# Altium footprint library RUF-Dispositivos-Grales.PcbLib: 97 footprints (part 1 of 7)
Each footprint in its own frame and in the unit in brackets; x right, y up, seen from the top. Pads: shape width x height; smd on the part's side, far side on the other; paste and mask are expansions set on the pad; w line width, h text height; cw(c..) or ccw(c..) is an arc to the next point about the centre after c.
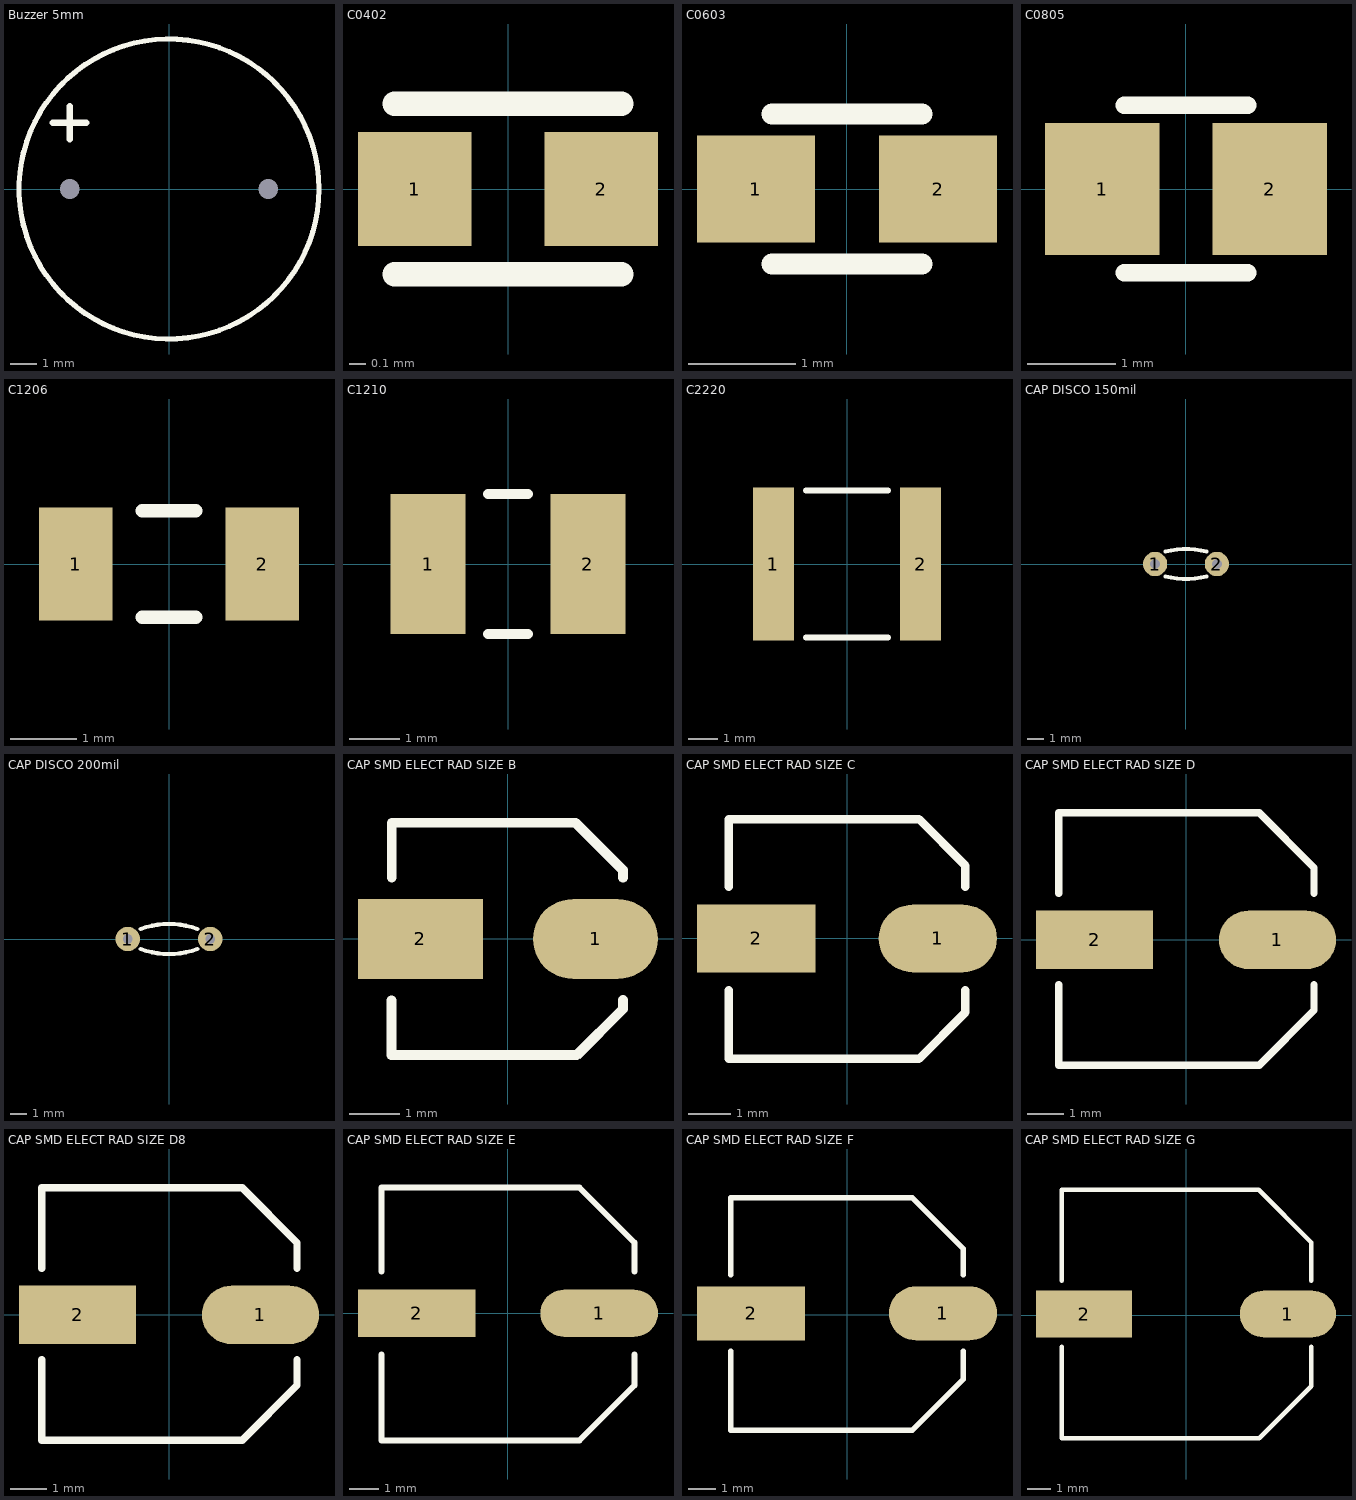
[diagram p0: the footprints below, top view; thin cyan lines are the x and y axes]

## Buzzer 5mm [mm] "Buzzer 5V"
height 9
pads (2):
  rect 0x0 / inner rect 2x2 / far side rect 2x2 hole 0.75: 1(-3.81,0)
  round 0 / inner round 2 / far side round 2 hole 0.75: 2(3.81,0)
Top Overlay:
  circle w0.2: c0,0 r5.75
  lines w0.254: -4.445,2.54 -3.175,2.54 ; -3.81,1.905 -3.81,3.175
3D body: height 9.5, standoff -4.5, extent -5.953,-6 6,6

## C0402 [mm] "Chip Capacitor; Body 1.0 x 0.5 mm (LxW typ)"
height 0.55
pads (2):
  rect 0.7x0.7 smd: 1(-0.575,0) 2(0.575,0)
Top Overlay:
  lines w0.15: -0.7,-0.525 0.7,-0.525 ; -0.7,0.525 0.7,0.525
3D body: height 0.51, standoff 0.01, extent -0.5,-0.25 0.5,0.25

## C0603 [mm] "Chip Capacitor; Body 1.6 x 0.8 mm (LxW typ)"
height 0.87
pads (2):
  rect 1.1x1 smd: 1(-0.85,0) 2(0.85,0)
Top Overlay:
  lines w0.2: -0.7,-0.7 0.7,-0.7 ; -0.7,0.7 0.7,0.7
3D body: height 0.82, standoff 0.02, extent -0.8,-0.4 0.8,0.4

## C0805 [mm] "Chip Capacitor; Body 2.0 x 1.2 mm (LxW typ)"
height 1.1
pads (2):
  rect 1.3x1.5 smd: 1(-0.95,0) 2(0.95,0)
Top Overlay:
  lines w0.2: -0.7,-0.95 0.7,-0.95 ; -0.7,0.95 0.7,0.95
3D body: height 0.62, standoff 0.02, extent -1,-0.625 1,0.625

## C1206 [mm] "Chip Capacitor; Body 3.2 x 1.5 mm (LxW typ)"
height 1.5
pads (2):
  rect 1.1x1.7 smd: 1(-1.4,0) 2(1.4,0)
Top Overlay:
  lines w0.2: -0.4,-0.8 0.4,-0.8 ; -0.4,0.8 0.4,0.8
3D body: height 0.79, standoff 0.01, extent -1.6,-0.8 1.6,0.8

## C1210 [mm] "Chip Capacitor, Body 3.2x2.5mm, IPC Low Density"
height 1.5
pads (2):
  rect 1.5x2.8 smd: 1(-1.6,0) 2(1.6,0)
Top Overlay:
  lines w0.2: -0.4,-1.4 0.4,-1.4 ; -0.4,1.4 0.4,1.4
3D body: height 0.79, standoff 0.01, extent -1.6,-1.25 1.6,1.25

## C2220 [mm] "Chip Capacitor, Body 5.7x5.0mm, IPC High Density"
height 1.4
pads (2):
  rect 1.4x5.2 smd: 1(-2.5,0) 2(2.5,0)
Top Overlay:
  lines w0.2: -1.4,-2.5 1.4,-2.5 ; -1.4,2.5 1.4,2.5
3D body: height 1.02, standoff 0.02, extent -2.8,-2.5 2.8,2.5

## CAP DISCO 150mil [mm] "Capacitor; 2 Leads"
height 12
pads (2):
  round 1.5 hole 0.6: 1(-1.905,0) 2(1.905,0)
Top Overlay:
  lines w0.254: -1.27,-0.764 ccw(c0,4.155) 1.27,-0.764 ; -1.27,0.764 cw(c0,-4.155) 1.27,0.764
3D body: height 6.96, standoff -2, extent -2.458,-1 2.459,1

## CAP DISCO 200mil [mm] "Capacitor; 2 Leads"
height 12
pads (2):
  round 1.5 hole 0.6: 1(-2.54,0) 2(2.54,0)
Top Overlay:
  lines w0.254: -1.737,-0.619 ccw(c0,4.155) 1.737,-0.619 ; -1.737,0.619 cw(c0,-4.155) 1.737,0.619
3D body: height 7.5, standoff -1, extent -3.5,-0.848 3.491,0.848

## CAP SMD ELECT RAD SIZE B [mm]
pads (2):
  oval 2.5x1.6 smd: 1(1.75,0)
  rect 2.5x1.6 smd: 2(-1.75,0)
Top Overlay:
  lines w0.2: -2.325,-1.225 -2.325,-2.325 1.375,-2.325 2.3,-1.4 2.3,-1.225 ; -2.325,1.225 -2.325,2.325 1.35,2.325 2.3,1.375 2.3,1.225
3D body: height 5.41, standoff -0.01, extent -2.3,-2.15 2.3,2.15

## CAP SMD ELECT RAD SIZE C [mm]
pads (2):
  oval 2.8x1.6 smd: 1(2.15,0)
  rect 2.8x1.6 smd: 2(-2.15,0)
Top Overlay:
  lines w0.2: -2.8,-1.225 -2.8,-2.85 1.7,-2.85 2.8,-1.75 2.8,-1.225 ; -2.8,1.225 -2.8,2.825 1.7,2.825 2.8,1.725 2.8,1.225
3D body: height 5.41, standoff -0.01, extent -2.95,-2.65 2.95,2.65

## CAP SMD ELECT RAD SIZE D [mm]
pads (2):
  oval 3.2x1.6 smd: 1(2.5,0)
  rect 3.2x1.6 smd: 2(-2.5,0)
Top Overlay:
  lines w0.2: -3.475,-1.225 -3.475,-3.425 2,-3.425 3.5,-1.925 3.5,-1.225 ; -3.475,1.275 -3.475,3.475 2,3.475 3.5,1.975 3.5,1.275
3D body: height 5.41, standoff -0.01, extent -3.5,-3.275 3.5,3.325

## CAP SMD ELECT RAD SIZE D8 [mm]
pads (2):
  oval 3.2x1.6 smd: 1(2.5,0)
  rect 3.2x1.6 smd: 2(-2.5,0)
Top Overlay:
  lines w0.2: -3.475,-1.225 -3.475,-3.425 2,-3.425 3.5,-1.925 3.5,-1.225 ; -3.475,1.275 -3.475,3.475 2,3.475 3.5,1.975 3.5,1.275
3D body: height 7.71, standoff -0.01, extent -3.5,-3.275 3.5,3.325

## CAP SMD ELECT RAD SIZE E [mm]
pads (2):
  oval 4x1.6 smd: 1(3.1,0)
  rect 4x1.6 smd: 2(-3.1,0)
Top Overlay:
  lines w0.2: -4.3,-1.4 -4.3,-4.325 2.425,-4.325 4.3,-2.45 4.3,-1.4 ; -4.3,1.425 -4.3,4.275 2.425,4.275 4.3,2.4 4.3,1.425
3D body: height 6.2, standoff -0.01, extent -4.5,-4.15 4.5,4.15

## CAP SMD ELECT RAD SIZE F [mm]
pads (2):
  oval 4x2 smd: 1(3.55,0.05)
  rect 4x2 smd: 2(-3.55,0.05)
Top Overlay:
  lines w0.2: -4.3,-1.35 -4.3,-4.275 2.425,-4.275 4.3,-2.4 4.3,-1.35 ; -4.3,1.475 -4.3,4.325 2.425,4.325 4.3,2.45 4.3,1.475
3D body: height 10.21, standoff -0.01, extent -4.975,-4.125 4.925,4.175

## CAP SMD ELECT RAD SIZE G [mm]
pads (2):
  oval 4.1x2 smd: 1(4.35,0.05)
  rect 4.1x2 smd: 2(-4.35,0.05)
Top Overlay:
  lines w0.2: -5.3,-1.35 -5.3,-5.25 3.125,-5.25 5.35,-3.025 5.35,-1.35 ; -5.3,1.475 -5.3,5.35 3.1,5.35 5.35,3.1 5.35,1.475
3D body: height 10.21, standoff -0.01, extent -5.775,-5.1 5.825,5.2